# Altium integrated library S4B-PH-SM4-TB.IntLib: 1 symbol
Pins are listed as number, name and electrical type; pins without a type are passive.

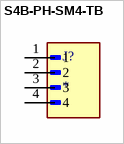
[diagram p0: symbol S4B-PH-SM4-TB]

## S4B-PH-SM4-TB
designator J?
Connector Header Surface Mount, Right Angle 4 position 0.079 (2.00mm); MF: JST Sales; MP: S4B-PH-SM4-TB; SnapEDA_Link: https://www.snapeda.com/parts/S4B-PH-SM4-TB/JST/view-part/?ref=snap; Package: None; Value: *; Check_prices: https://www.snapeda.com/parts/S4B-PH-SM4-TB/JST/view-part/?ref=eda
footprint JST_S4B-PH-SM4-TB
pins: 1, 2, 3, 4